# EAGLE library part E95F (library radiotubes)
HF Pentode
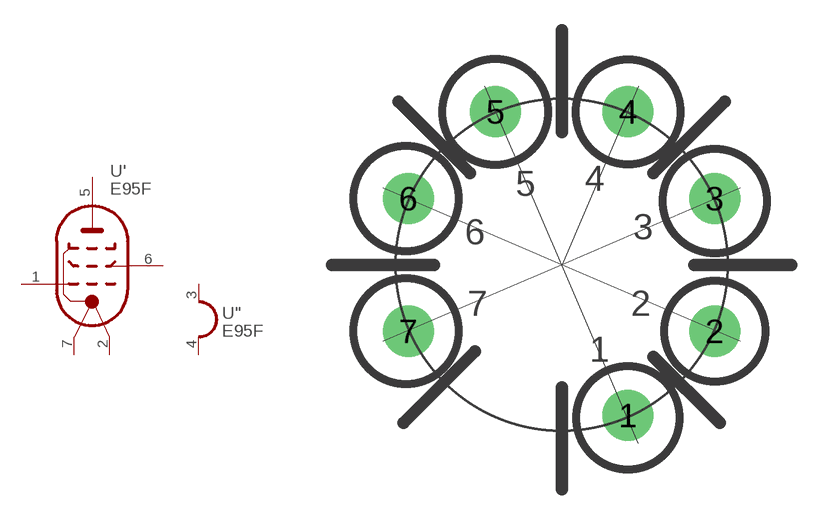
[diagram p142: symbol with the pads of MI7PIN; footprint MI7PIN]

Designator prefix -; gates '=PENT-KN "=HEATER_1

## E95F  [MI7PIN]
1  ':G1  pas
2  ':K  pas
3  ":H1  pas
4  ":H2  pas
5  ':A  pas
6  ':G2  pas
7  ':KG3  pas

## Footprint MI7PIN (pad centres in mm)
drill 0.813 pad 2.54: 1 3.302,-7.493; 2 7.62,-3.302; 3 7.62,3.302; 4 3.302,7.62; 5 -3.302,7.62; 6 -7.62,3.302; 7 -7.62,-3.302